# EAGLE library part ADL5513_ADL5513IMPRO (library eagle-template-export)
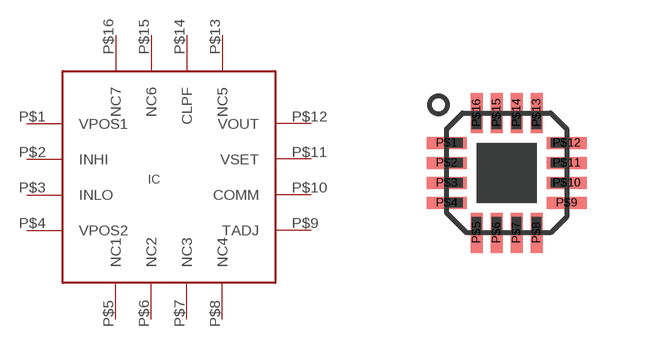
[diagram p3: symbol with the pads of ADL5513_LFCSP16; footprint ADL5513_LFCSP16]

Designator prefix IC

## ADL5513_ADL5513IMPRO  [ADL5513_LFCSP16]
P$1  VPOS1
P$2  INHI
P$3  INLO
P$4  VPOS2
P$5  NC1
P$6  NC2
P$7  NC3
P$8  NC4
P$9  TADJ
P$10  COMM
P$11  VSET
P$12  VOUT
P$13  NC5
P$14  CLPF
P$15  NC6
P$16  NC7

## Footprint ADL5513_LFCSP16 (pad centres in mm)
smd 1 x 0.3: P$1 -1.5,0.75; P$2 -1.5,0.25; P$3 -1.5,-0.25; P$4 -1.5,-0.75; P$9 1.5,-0.75; P$10 1.5,-0.25; P$11 1.5,0.25; P$12 1.5,0.75
smd 0.3 x 1: P$5 -0.75,-1.5; P$6 -0.25,-1.5; P$7 0.25,-1.5; P$8 0.75,-1.5; P$13 0.75,1.5; P$14 0.25,1.5; P$15 -0.25,1.5; P$16 -0.75,1.5